# EAGLE library part ESP32 (library Espressif)
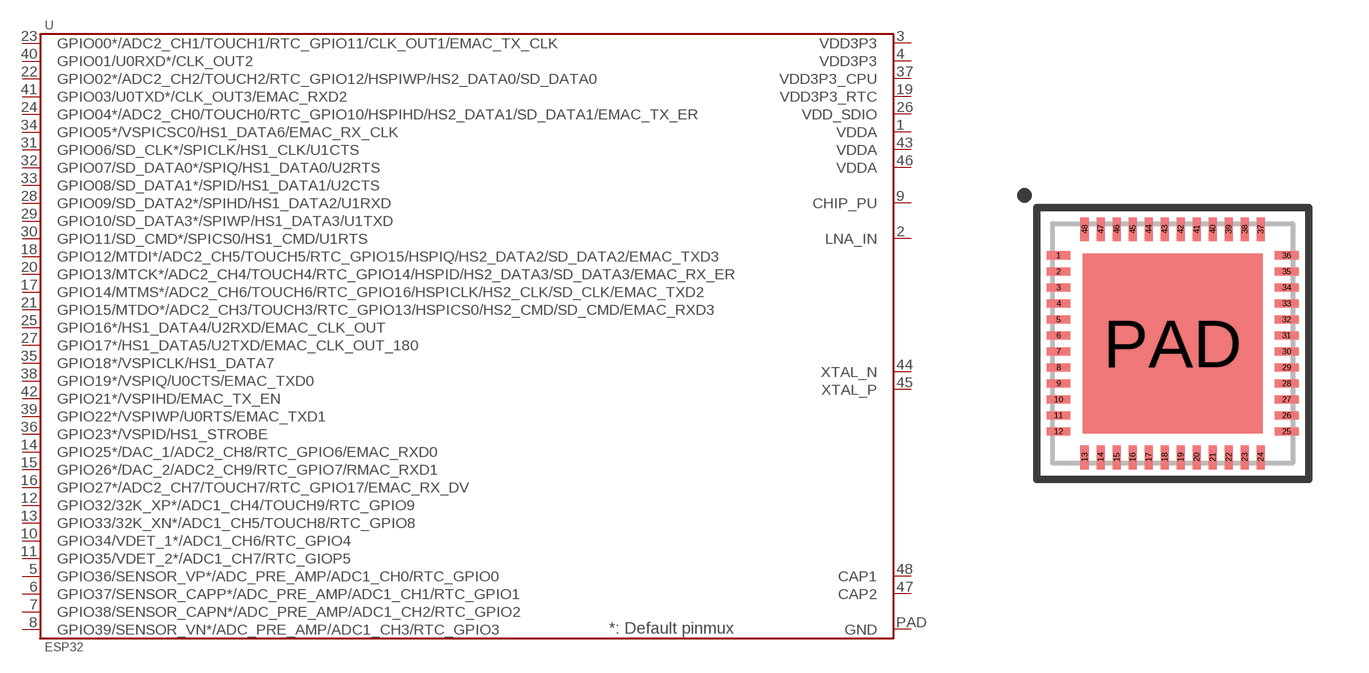
[diagram p0: symbol with the pads of ESP32; footprint ESP32]

Designator prefix U

## ESP32  [ESP32]
1  VDDA
2  LNA_IN
3  VDD3P3
4  VDD3P3
5  GPIO36/SENSOR_VP*/ADC_PRE_AMP/ADC1_CH0/RTC_GPIO0
6  GPIO37/SENSOR_CAPP*/ADC_PRE_AMP/ADC1_CH1/RTC_GPIO1
7  GPIO38/SENSOR_CAPN*/ADC_PRE_AMP/ADC1_CH2/RTC_GPIO2
8  GPIO39/SENSOR_VN*/ADC_PRE_AMP/ADC1_CH3/RTC_GPIO3
9  CHIP_PU
10  GPIO34/VDET_1*/ADC1_CH6/RTC_GPIO4
11  GPIO35/VDET_2*/ADC1_CH7/RTC_GIOP5
12  GPIO32/32K_XP*/ADC1_CH4/TOUCH9/RTC_GPIO9
13  GPIO33/32K_XN*/ADC1_CH5/TOUCH8/RTC_GPIO8
14  GPIO25*/DAC_1/ADC2_CH8/RTC_GPIO6/EMAC_RXD0
15  GPIO26*/DAC_2/ADC2_CH9/RTC_GPIO7/RMAC_RXD1
16  GPIO27*/ADC2_CH7/TOUCH7/RTC_GPIO17/EMAC_RX_DV
17  GPIO14/MTMS*/ADC2_CH6/TOUCH6/RTC_GPIO16/HSPICLK/HS2_CLK/SD_CLK/EMAC_TXD2
18  GPIO12/MTDI*/ADC2_CH5/TOUCH5/RTC_GPIO15/HSPIQ/HS2_DATA2/SD_DATA2/EMAC_TXD3
19  VDD3P3_RTC
20  GPIO13/MTCK*/ADC2_CH4/TOUCH4/RTC_GPIO14/HSPID/HS2_DATA3/SD_DATA3/EMAC_RX_ER
21  GPIO15/MTDO*/ADC2_CH3/TOUCH3/RTC_GPIO13/HSPICS0/HS2_CMD/SD_CMD/EMAC_RXD3
22  GPIO02*/ADC2_CH2/TOUCH2/RTC_GPIO12/HSPIWP/HS2_DATA0/SD_DATA0
23  GPIO00*/ADC2_CH1/TOUCH1/RTC_GPIO11/CLK_OUT1/EMAC_TX_CLK
24  GPIO04*/ADC2_CH0/TOUCH0/RTC_GPIO10/HSPIHD/HS2_DATA1/SD_DATA1/EMAC_TX_ER
25  GPIO16*/HS1_DATA4/U2RXD/EMAC_CLK_OUT
26  VDD_SDIO
27  GPIO17*/HS1_DATA5/U2TXD/EMAC_CLK_OUT_180
28  GPIO09/SD_DATA2*/SPIHD/HS1_DATA2/U1RXD
29  GPIO10/SD_DATA3*/SPIWP/HS1_DATA3/U1TXD
30  GPIO11/SD_CMD*/SPICS0/HS1_CMD/U1RTS
31  GPIO06/SD_CLK*/SPICLK/HS1_CLK/U1CTS
32  GPIO07/SD_DATA0*/SPIQ/HS1_DATA0/U2RTS
33  GPIO08/SD_DATA1*/SPID/HS1_DATA1/U2CTS
34  GPIO05*/VSPICSC0/HS1_DATA6/EMAC_RX_CLK
35  GPIO18*/VSPICLK/HS1_DATA7
36  GPIO23*/VSPID/HS1_STROBE
37  VDD3P3_CPU
38  GPIO19*/VSPIQ/U0CTS/EMAC_TXD0
39  GPIO22*/VSPIWP/U0RTS/EMAC_TXD1
40  GPIO01/U0RXD*/CLK_OUT2
41  GPIO03/U0TXD*/CLK_OUT3/EMAC_RXD2
42  GPIO21*/VSPIHD/EMAC_TX_EN
43  VDDA
44  XTAL_N
45  XTAL_P
46  VDDA
47  CAP2
48  CAP1
PAD  GND

## Footprint ESP32 (pad centres in mm)
smd 0.6 x 0.2: 1 -2.85,2.2; 2 -2.85,1.8; 3 -2.85,1.4; 4 -2.85,1; 5 -2.85,0.6; 6 -2.85,0.2; 7 -2.85,-0.2; 8 -2.85,-0.6; 9 -2.85,-1; 10 -2.85,-1.4; 11 -2.85,-1.8; 12 -2.85,-2.2; 25 2.85,-2.2; 26 2.85,-1.8; 27 2.85,-1.4; 28 2.85,-1; 29 2.85,-0.6; 30 2.85,-0.2; 31 2.85,0.2; 32 2.85,0.6; 33 2.85,1; 34 2.85,1.4; 35 2.85,1.8; 36 2.85,2.2
smd 0.2 x 0.6: 13 -2.2,-2.85; 14 -1.8,-2.85; 15 -1.4,-2.85; 16 -1,-2.85; 17 -0.6,-2.85; 18 -0.2,-2.85; 19 0.2,-2.85; 20 0.6,-2.85; 21 1,-2.85; 22 1.4,-2.85; 23 1.8,-2.85; 24 2.2,-2.85; 37 2.2,2.85; 38 1.8,2.85; 39 1.4,2.85; 40 1,2.85; 41 0.6,2.85; 42 0.2,2.85; 43 -0.2,2.85; 44 -0.6,2.85; 45 -1,2.85; 46 -1.4,2.85; 47 -1.8,2.85; 48 -2.2,2.85
smd 4.5 x 4.5: PAD 0,0